# Altium footprint library footprint1.pcblib: 24 footprints (part 2 of 2)
Each footprint in its own frame and in the unit in brackets; x right, y up, seen from the top. Pads: shape width x height; smd on the part's side, far side on the other; paste and mask are expansions set on the pad; w line width, h text height; cw(c..) or ccw(c..) is an arc to the next point about the centre after c.
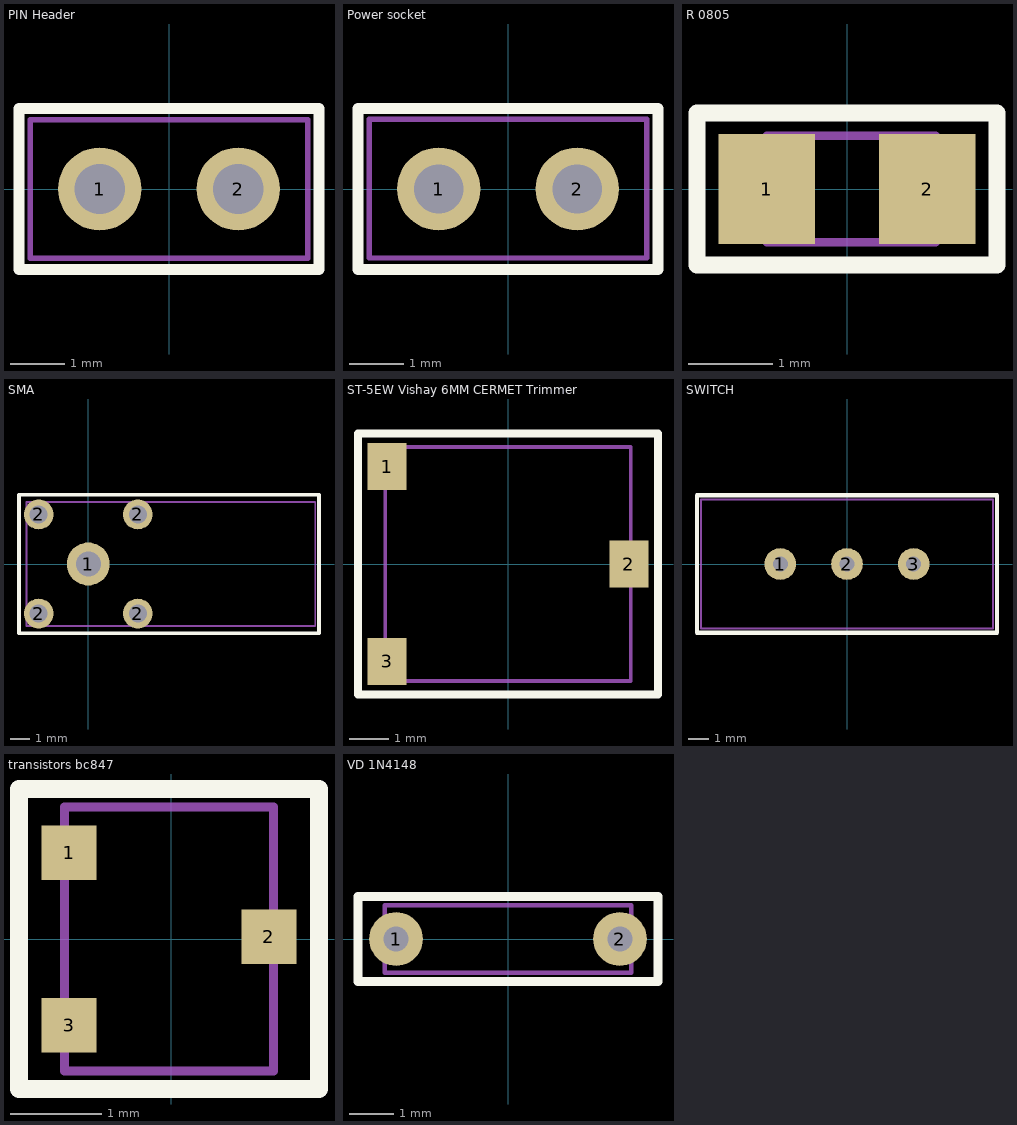
[diagram p1: the footprints below, top view; thin cyan lines are the x and y axes]

## PIN Header [mil]
pads (2):
  round 60 hole 36.22: 1(-50,0) 2(50,0)
Top Overlay:
  lines w7.87: -108.27,-58.07 -108.27,58.07 108.27,58.07 108.27,-58.07 -108.27,-58.07
Top Assy:
  lines w3.94: -99.99,-49.99 100.01,-49.99 100.01,50.01 -99.99,50.01 -99.99,-49.99
3D body "User Library-PLD-2-2.STEP": height 342.52, standoff -115.75, extent -99.99,-49.99 100.01,50.01

## Power socket [mil]
pads (2):
  round 60 hole 35.43: 1(-50,0) 2(50,0)
Top Overlay:
  lines w7.87: -108.27,-58.07 108.27,-58.07 108.27,58.07 -108.27,58.07 -108.27,-58.07
Top Assy:
  lines w3.94: -100,-49.8 -100,50.2 100,50.2 100,-49.8 -100,-49.8
3D body "User Library-HeaderRangLuocDonThang2_54mm.step": height 334.65, standoff -125.98, extent -100,-49.8 100,50.2

## R 0805 [mm]
pads (2):
  rect 1.14x1.3 smd: 1(-0.95,0) 2(0.95,0)
Top Overlay:
  lines w0.2: -1.775,-0.9 1.775,-0.9 1.775,0.9 -1.775,0.9 -1.775,-0.9
Top Assy:
  lines w0.1: -0.95,-0.63 -0.95,0.63 1.05,0.63 1.05,-0.63 -0.95,-0.63
3D body "User Library-CR2012-0805.step": height 0.6, standoff 0, extent -0.95,-0.625 1.05,0.625

## SMA [mil]
pads (5):
  round 86.61 hole 50.39: 1(0,0)
  round 60 hole 36.22: 2(-100,-100) 2(-100,100) 2(100,-100) 2(100,100)
Top Overlay:
  lines w7.87: -139.76,-139.76 465.55,-139.76 465.55,139.76 -139.76,139.76 -139.76,-139.76
3D models:
  lines w3.94: -124.99,-124.99 458.01,-124.99 458.01,125 -124.99,125 -124.99,-124.99
3D body "User Library-sma ra pcb mount molex.STEP": height 387.81, standoff -143.19, extent -125,-125 458,125

## ST-5EW Vishay 6MM CERMET Trimmer [mm]
pads (3):
  rect 1x1.2 smd: 1(-3.1,2.5) 2(3.1,0) 3(-3.1,-2.5)
Top Overlay:
  lines w0.2: -3.85,-3.35 3.85,-3.35 3.85,3.35 -3.85,3.35 -3.85,-3.35
Top Assy:
  lines w0.1: -3.15,-3 3.15,-3 3.15,3 -3.15,3 -3.15,-3
3D body "User Library-ST-5EW_POT.STEP": height 7.75, standoff 0, extent -3.15,-3 3.15,3

## SWITCH [mil]
pads (3):
  round 60 hole 28.35: 1(-125.98,0) 2(0,0) 3(125.98,0)
Top Overlay:
  lines w7.87: -283.46,-129.92 283.46,-129.92 283.46,129.92 -283.46,129.92 -283.46,-129.92
Top Assy:
  lines w3.94: 275.59,-122.04 275.59,122.05 -275.59,122.05 -275.58,-122.04 275.59,-122.04 ; 275.59,-122.04 275.59,-122.04
3D body "User Library-SLB12814.STEP": height 391.73, standoff -90.55, extent -275.59,-122.04 275.59,122.05

## transistors bc847 [mm]
pads (3):
  rect 0.6x0.6 smd: 1(-1.125,0.95) 2(1.075,0.025) 3(-1.125,-0.95)
Top Overlay:
  lines w0.2: -1.675,-1.65 1.625,-1.65 1.625,1.65 -1.675,1.65 -1.675,-1.65
Top Assy:
  lines w0.1: -1.175,-1.45 1.125,-1.45 1.125,1.45 -1.175,1.45 -1.175,-1.45
3D body "BC857B.stp": height 1.08, standoff -0.02, extent -1.175,-1.45 1.125,1.45

## VD 1N4148 [mm]
pads (2):
  round 1.2 hole 0.55: 1(-2.5,0) 2(2.5,0)
Top Overlay:
  lines w0.2: -3.35,-0.95 3.35,-0.95 3.35,0.95 -3.35,0.95 -3.35,-0.95
Top Assy:
  lines w0.1: -2.75,-0.75 2.75,-0.75 2.75,0.75 -2.75,0.75 -2.75,-0.75
3D body "User Library-1N4148 x5mm.STEP": height 2.75, standoff -1.35, extent -2.75,-0.75 2.75,0.75